# EAGLE library part NRF51X22 (library w88)
QFN package for nRF51x22.
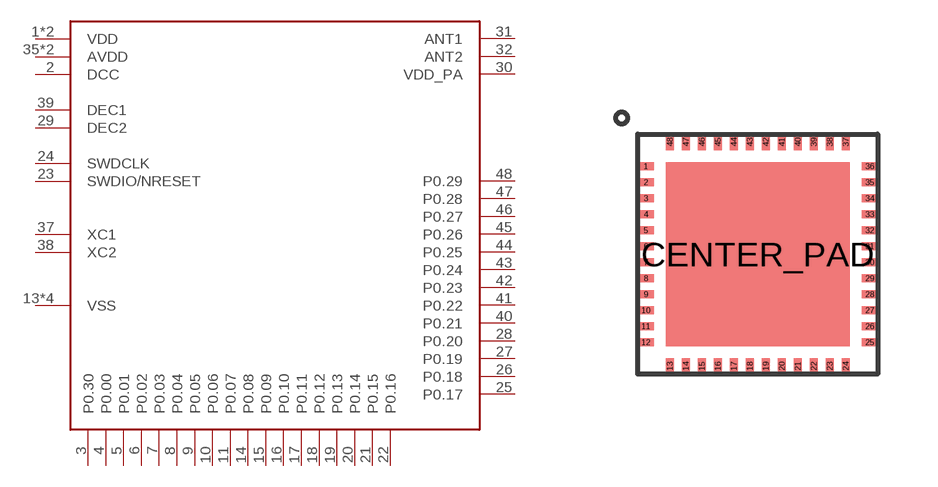
[diagram p1: symbol with the pads of QFN48; footprint QFN48]

Designator prefix -

## NRF51X22  [QFN48]
1  VDD  sup
2  DCC
3  P0.30
4  P0.00
5  P0.01
6  P0.02
7  P0.03
8  P0.04
9  P0.05
10  P0.06
11  P0.07
12  VDD  sup
13  VSS  sup
14  P0.08
15  P0.09
16  P0.10
17  P0.11
18  P0.12
19  P0.13
20  P0.14
21  P0.15
22  P0.16
23  SWDIO/NRESET
24  SWDCLK
25  P0.17
26  P0.18
27  P0.19
28  P0.20
29  DEC2
30  VDD_PA
31  ANT1
32  ANT2
33  VSS  sup
34  VSS  sup
35  AVDD
36  AVDD
37  XC1
38  XC2
39  DEC1
40  P0.21
41  P0.22
42  P0.23
43  P0.24
44  P0.25
45  P0.26
46  P0.27
47  P0.28
48  P0.29
CENTER_PAD  VSS  sup

## Footprint QFN48 (pad centres in mm)
smd 0.4 x 0.2: 1 -2.8,2.2; 2 -2.8,1.8; 3 -2.8,1.4; 4 -2.8,1; 5 -2.8,0.6; 6 -2.8,0.2; 7 -2.8,-0.2; 8 -2.8,-0.6; 9 -2.8,-1; 10 -2.8,-1.4; 11 -2.8,-1.8; 12 -2.8,-2.2; 25 2.8,-2.2; 26 2.8,-1.8; 27 2.8,-1.4; 28 2.8,-1; 29 2.8,-0.6; 30 2.8,-0.2; 31 2.8,0.2; 32 2.8,0.6; 33 2.8,1; 34 2.8,1.4; 35 2.8,1.8; 36 2.8,2.2
smd 0.2 x 0.4: 13 -2.2,-2.8; 14 -1.8,-2.8; 15 -1.4,-2.8; 16 -1,-2.8; 17 -0.6,-2.8; 18 -0.2,-2.8; 19 0.2,-2.8; 20 0.6,-2.8; 21 1,-2.8; 22 1.4,-2.8; 23 1.8,-2.8; 24 2.2,-2.8; 37 2.2,2.8; 38 1.8,2.8; 39 1.4,2.8; 40 1,2.8; 41 0.6,2.8; 42 0.2,2.8; 43 -0.2,2.8; 44 -0.6,2.8; 45 -1,2.8; 46 -1.4,2.8; 47 -1.8,2.8; 48 -2.2,2.8
smd 4.6 x 4.6: CENTER_PAD 0,0